# Altium integrated library TL3340AF160QG.IntLib: 1 symbol
Pins are listed as number, name and electrical type; pins without a type are passive.

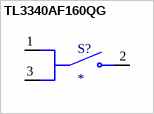
[diagram p0: symbol TL3340AF160QG]

## TL3340AF160QG
designator S?
Tactile Switch SPST-NO Side Actuated Surface Mount, Right Angle; MF: E-Switch; MP: TL3340AF160QG; SnapEDA_Link: https://www.snapeda.com/parts/TL3340AF160QG/E-Switch/view-part/?ref=snap; Package: None; Value: *; Check_prices: https://www.snapeda.com/parts/TL3340AF160QG/E-Switch/view-part/?ref=eda
footprint SW_TL3340AF160QG
pins: 1 COM_1, 2 NO, 3 COM_2